# EAGLE library part PI-EXT (library Ciseco Board Outlines)
Ciseco Rasbperry Pi add on board outlines This version includes two headers joined together
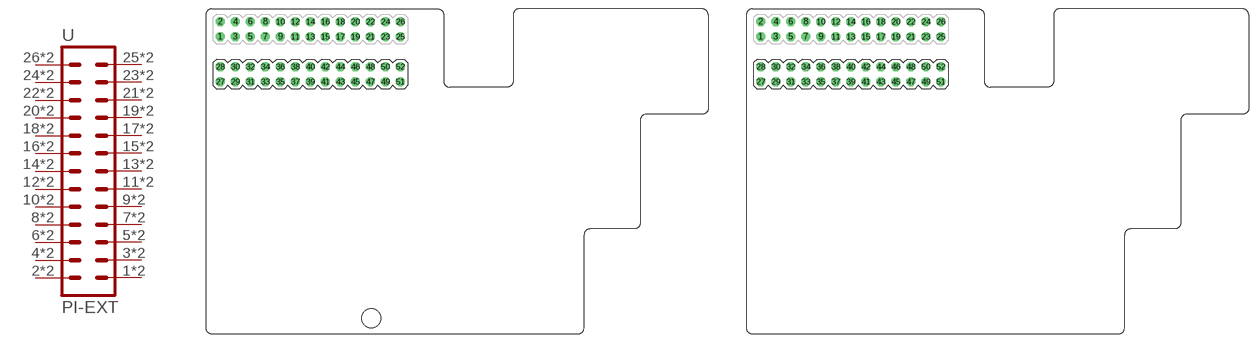
[diagram p1: symbol with the pads of PI-EXT-BOARD; footprints PI-EXT-BOARD, PI-EXT-BOARD-NOHOLE]

Designator prefix U

## PI-EXT-BOARD  [PI-EXT-BOARD]
1  1  pas
2  2  pas
3  3  pas
4  4  pas
5  5  pas
6  6  pas
7  7  pas
8  8  pas
9  9  pas
10  10  pas
11  11  pas
12  12  pas
13  13  pas
14  14  pas
15  15  pas
16  16  pas
17  17  pas
18  18  pas
19  19  pas
20  20  pas
21  21  pas
22  22  pas
23  23  pas
24  24  pas
25  25  pas
26  26  pas
27  1  pas
28  2  pas
29  3  pas
30  4  pas
31  5  pas
32  6  pas
33  7  pas
34  8  pas
35  9  pas
36  10  pas
37  11  pas
38  12  pas
39  13  pas
40  14  pas
41  15  pas
42  16  pas
43  17  pas
44  18  pas
45  19  pas
46  20  pas
47  21  pas
48  22  pas
49  23  pas
50  24  pas
51  25  pas
52  26  pas

## PI-EXT-BOARD-NOHOLE  [PI-EXT-BOARD-NOHOLE]
Pads as for PI-EXT-BOARD

## PI-EXT-BOARD-REF  [PI-EXT-BOARD-REF]
Pads as for PI-EXT-BOARD

## PI-EXT-BOARD-PI-LITE  [PI-LITE-EXT-BOARD]
Pads as for PI-EXT-BOARD

## Footprint PI-EXT-BOARD (pad centres in mm)
drill 1.016 octagon: 1 2.44,50.31; 2 2.44,52.85; 3 4.98,50.31; 4 4.98,52.85; 5 7.52,50.31; 6 7.52,52.85; 7 10.06,50.31; 8 10.06,52.85; 9 12.6,50.31; 10 12.6,52.85; 11 15.14,50.31; 12 15.14,52.85; 13 17.68,50.31; 14 17.68,52.85; 15 20.22,50.31; 16 20.22,52.85; 17 22.76,50.31; 18 22.76,52.85; 19 25.3,50.31; 20 25.3,52.85; 21 27.84,50.31; 22 27.84,52.85; 23 30.38,50.31; 24 30.38,52.85; 25 32.92,50.31; 26 32.92,52.85; 27 2.44,42.69; 28 2.44,45.23; 29 4.98,42.69; 30 4.98,45.23; 31 7.52,42.69; 32 7.52,45.23; 33 10.06,42.69; 34 10.06,45.23; 35 12.6,42.69; 36 12.6,45.23; 37 15.14,42.69; 38 15.14,45.23; 39 17.68,42.69; 40 17.68,45.23; 41 20.22,42.69; 42 20.22,45.23; 43 22.76,42.69; 44 22.76,45.23; 45 25.3,42.69; 46 25.3,45.23; 47 27.84,42.69; 48 27.84,45.23; 49 30.38,42.69; 50 30.38,45.23; 51 32.92,42.69; 52 32.92,45.23
hole 3.2 at 28.019,2.638

## Footprint PI-EXT-BOARD-NOHOLE (pad centres in mm)
drill 1.016 octagon: 1 2.44,50.31; 2 2.44,52.85; 3 4.98,50.31; 4 4.98,52.85; 5 7.52,50.31; 6 7.52,52.85; 7 10.06,50.31; 8 10.06,52.85; 9 12.6,50.31; 10 12.6,52.85; 11 15.14,50.31; 12 15.14,52.85; 13 17.68,50.31; 14 17.68,52.85; 15 20.22,50.31; 16 20.22,52.85; 17 22.76,50.31; 18 22.76,52.85; 19 25.3,50.31; 20 25.3,52.85; 21 27.84,50.31; 22 27.84,52.85; 23 30.38,50.31; 24 30.38,52.85; 25 32.92,50.31; 26 32.92,52.85; 27 2.44,42.69; 28 2.44,45.23; 29 4.98,42.69; 30 4.98,45.23; 31 7.52,42.69; 32 7.52,45.23; 33 10.06,42.69; 34 10.06,45.23; 35 12.6,42.69; 36 12.6,45.23; 37 15.14,42.69; 38 15.14,45.23; 39 17.68,42.69; 40 17.68,45.23; 41 20.22,42.69; 42 20.22,45.23; 43 22.76,42.69; 44 22.76,45.23; 45 25.3,42.69; 46 25.3,45.23; 47 27.84,42.69; 48 27.84,45.23; 49 30.38,42.69; 50 30.38,45.23; 51 32.92,42.69; 52 32.92,45.23

## Footprint PI-EXT-BOARD-REF (pad centres in mm)
drill 1.016 octagon: 1 2.44,50.31; 2 2.44,52.85; 3 4.98,50.31; 4 4.98,52.85; 5 7.52,50.31; 6 7.52,52.85; 7 10.06,50.31; 8 10.06,52.85; 9 12.6,50.31; 10 12.6,52.85; 11 15.14,50.31; 12 15.14,52.85; 13 17.68,50.31; 14 17.68,52.85; 15 20.22,50.31; 16 20.22,52.85; 17 22.76,50.31; 18 22.76,52.85; 19 25.3,50.31; 20 25.3,52.85; 21 27.84,50.31; 22 27.84,52.85; 23 30.38,50.31; 24 30.38,52.85; 25 32.92,50.31; 26 32.92,52.85; 27 2.44,42.69; 28 2.44,45.23; 29 4.98,42.69; 30 4.98,45.23; 31 7.52,42.69; 32 7.52,45.23; 33 10.06,42.69; 34 10.06,45.23; 35 12.6,42.69; 36 12.6,45.23; 37 15.14,42.69; 38 15.14,45.23; 39 17.68,42.69; 40 17.68,45.23; 41 20.22,42.69; 42 20.22,45.23; 43 22.76,42.69; 44 22.76,45.23; 45 25.3,42.69; 46 25.3,45.23; 47 27.84,42.69; 48 27.84,45.23; 49 30.38,42.69; 50 30.38,45.23; 51 32.92,42.69; 52 32.92,45.23

## Footprint PI-LITE-EXT-BOARD (pad centres in mm)
drill 1.016 octagon: 1 2.44,50.31; 2 2.44,52.85; 3 4.98,50.31; 4 4.98,52.85; 5 7.52,50.31; 6 7.52,52.85; 7 10.06,50.31; 8 10.06,52.85; 9 12.6,50.31; 10 12.6,52.85; 11 15.14,50.31; 12 15.14,52.85; 13 17.68,50.31; 14 17.68,52.85; 15 20.22,50.31; 16 20.22,52.85; 17 22.76,50.31; 18 22.76,52.85; 19 25.3,50.31; 20 25.3,52.85; 21 27.84,50.31; 22 27.84,52.85; 23 30.38,50.31; 24 30.38,52.85; 25 32.92,50.31; 26 32.92,52.85; 27 2.44,42.69; 28 2.44,45.23; 29 4.98,42.69; 30 4.98,45.23; 31 7.52,42.69; 32 7.52,45.23; 33 10.06,42.69; 34 10.06,45.23; 35 12.6,42.69; 36 12.6,45.23; 37 15.14,42.69; 38 15.14,45.23; 39 17.68,42.69; 40 17.68,45.23; 41 20.22,42.69; 42 20.22,45.23; 43 22.76,42.69; 44 22.76,45.23; 45 25.3,42.69; 46 25.3,45.23; 47 27.84,42.69; 48 27.84,45.23; 49 30.38,42.69; 50 30.38,45.23; 51 32.92,42.69; 52 32.92,45.23